# Altium schematic symbol library MAX15053EWL+T.Schlib: 1 symbol
Pins are listed as number, name and electrical type; pins without a type are passive.

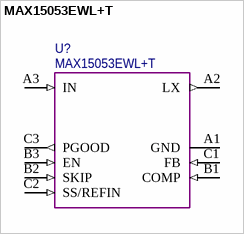
[diagram p0: symbol MAX15053EWL+T]

## MAX15053EWL+T
designator U?
pins: A1 GND (power), A2 LX (out), A3 IN (in), B1 COMP (in), B2 SKIP (in), B3 EN (in), C1 FB (in), C2 SS/REFIN (in), C3 PGOOD (out)